# Altium footprint library PCB1.PcbLib: 18 footprints (part 2 of 2)
Each footprint in its own frame and in the unit in brackets; x right, y up, seen from the top. Pads: shape width x height; smd on the part's side, far side on the other; paste and mask are expansions set on the pad; w line width, h text height; cw(c..) or ccw(c..) is an arc to the next point about the centre after c.
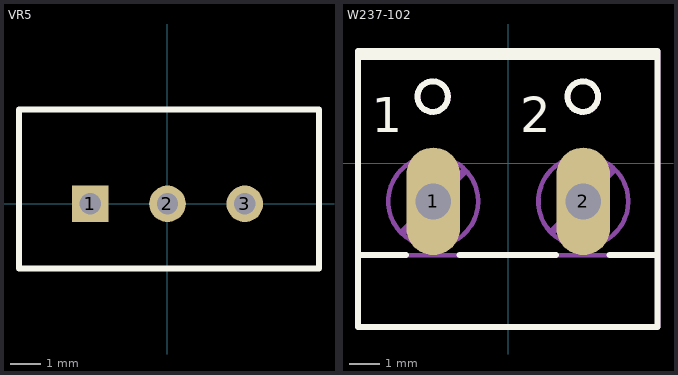
[diagram p1: the footprints below, top view; thin cyan lines are the x and y axes]

## VR5 [mm] "Thru-Hole; 3 Leads"
pads (3):
  rect 1.2x1.2 hole 0.7: 1(-2.54,0)
  round 1.2 hole 0.7: 2(0,0) 3(2.54,0)
Top Overlay:
  lines w0.2: -4.875,-2.125 -4.875,3.1 4.975,3.1 4.975,0.105 4.975,-2.125 -4.875,-2.125
3D body "Trimmer 3296.x_t": height 11.61, standoff -2.74, extent -4.75,-2 4.85,3

## W237-102 [mil] "W237-102"
pads (2):
  oval 70.5x141 / inner round 0 / far side oval 70.5x141 hole 47: 1(-98.43,-50) 2(98.43,-50)
Top Overlay:
  circle w7.87: c-99.13,87.43 r20
  circle w7.87: c97.87,87.43 r20
  lines w7.87: -134.13,-120.55 -197.12,-120.55 ; -64.13,-120.55 62.88,-120.55 ; 132.88,-120.55 195.87,-120.55 ; -197.12,-120.55 -197.12,-214.57 195.87,-214.57 195.87,-120.55 ; -197.12,-120.55 -197.12,139.45 ; -197.12,139.45 -197.12,147.44 195.87,147.44 195.87,139.45 ; -197.12,139.45 195.87,139.45 ; 195.87,-120.55 195.87,139.45
  text "1" at -179.13,25.43 h78.74
  text "2" at 15.87,25.43 h78.74
Mechanical 3:
  circle w6: c-98.43,-50 r59
  circle w6: c98.57,-50 r59
  lines w6: -133.43,-120.98 -63.43,-120.98 ; 63.58,-120.98 133.58,-120.98
  lines w10: -137.44,-90 -58.43,-10.98 ; 58.58,-89.02 136.57,-10
Mechanical 7:
  circle w6: c-98.43,87 r20
  circle w6: c98.57,87 r20
  lines w6: -133.43,-120.98 -196.42,-120.98 ; -63.43,-120.98 63.58,-120.98 ; 133.58,-120.98 196.57,-120.98 ; -196.42,-120.98 -196.42,-215 196.57,-215 196.57,-120.98 ; -196.42,-120.98 -196.42,139.02 ; -196.42,139.02 196.57,139.02 ; -196.42,139.02 -196.42,147.01 196.57,147.01 196.57,139.02 ; 196.57,-120.98 196.57,139.02
  text "1" at -178.43,25 h77.5
  text "2" at 16.57,25 h77.5
3D body "W237-102.x_b": height 409.21, standoff -156.98, extent -208.66,-187.01 200.79,120.08